# EAGLE library part LTC699X (library linear-technology)
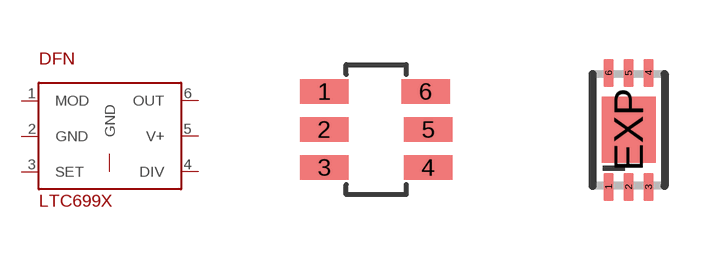
[diagram p35: symbol with the pads of TSOT-23-6; footprints TSOT-23-6, DFN6-2X3]

Designator prefix DFN

## LTC699X  [TSOT-23-6]
1  MOD
2  GND
3  SET
4  DIV
5  V+
6  OUT

## LTC699XDFN  [DFN6-2X3]
1  V+
2  DIV
3  SET
4  MOD
5  GND
6  OUT
EXP  GND

## Footprint TSOT-23-6 (pad centres in mm)
smd 1.22 x 0.62: 1 -1.3,0.95; 2 -1.3,0; 3 -1.3,-0.95; 4 1.3,-0.95; 5 1.3,0; 6 1.24,0.95

## Footprint DFN6-2X3 (pad centres in mm)
DCB Package 6-Lead Plastic DFN (2mm × 3mm) Source: http://www.linear.com/pc/downloadDocument.do?navId=H0,C1,C1003,C1042,C1032,C1063,P26952,D16357
smd 0.25 x 0.7: 1 -0.5,-1.425; 2 0,-1.425; 3 0.5,-1.425; 4 0.5,1.425; 5 0,1.425; 6 -0.5,1.425
smd 1.35 x 1.65: EXP 0,0